# Altium footprint library QUTMS-MCISOLibrary.PcbLib: 51 footprints (part 3 of 4)
Each footprint in its own frame and in the unit in brackets; x right, y up, seen from the top. Pads: shape width x height; smd on the part's side, far side on the other; paste and mask are expansions set on the pad; w line width, h text height; cw(c..) or ccw(c..) is an arc to the next point about the centre after c.
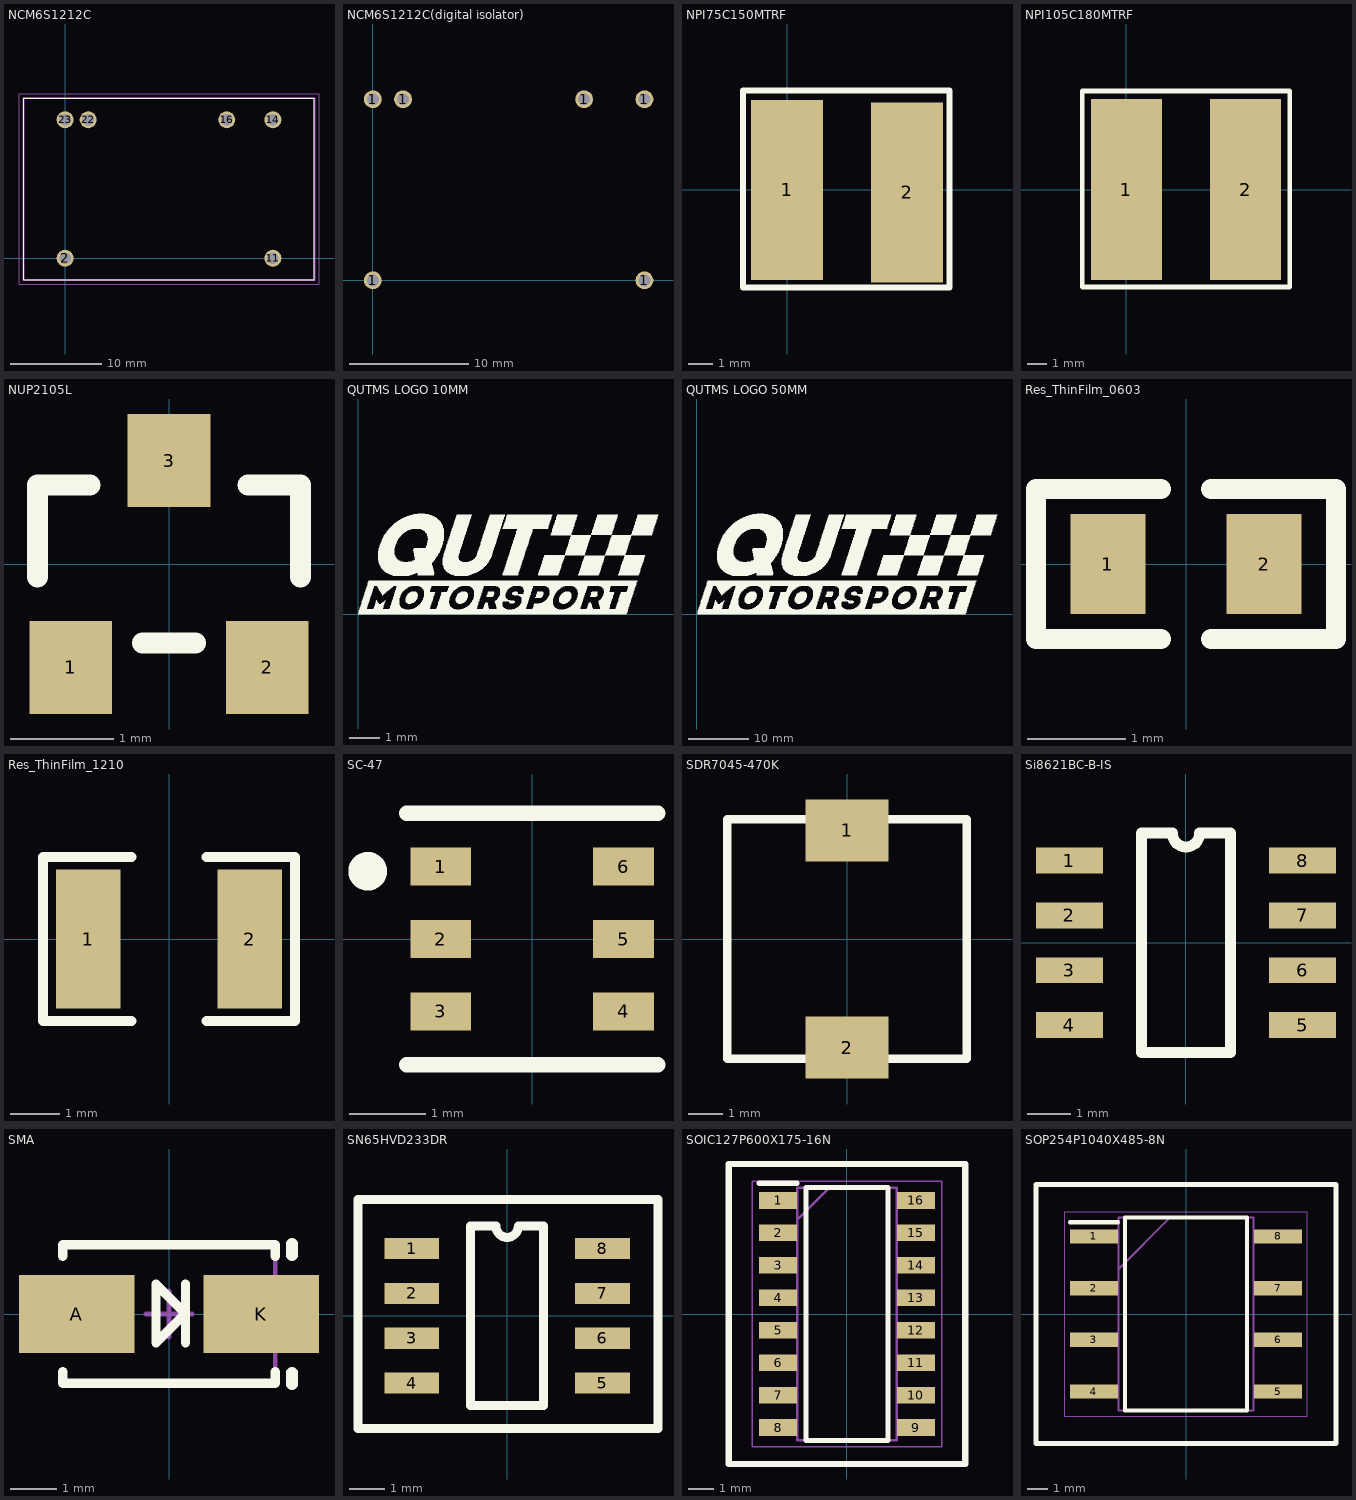
[diagram p2: the footprints below, top view; thin cyan lines are the x and y axes]

## NCM6S1212C [mm]
pads (6):
  round 1.875 hole 1.25: 2(0,0) 11(22.86,0) 14(22.86,15.24) 16(17.78,15.24) 22(2.54,15.24) 23(0,15.24)
Top Overlay:
  lines w0.1: -4.57,-2.38 -4.57,17.62 27.43,17.62 27.43,-2.38 -4.57,-2.38
Mechanical 13:
  lines w0.2: -4.57,-2.38 -4.57,17.62 27.43,17.62 27.43,-2.38 -4.57,-2.38
Mechanical 15:
  lines w0.1: -5.07,-2.88 -5.07,18.12 27.93,18.12 27.93,-2.88 -5.07,-2.88
3D body "NCM6S1212C.stp": height 10.85, standoff -5, extent -4.57,-2.38 27.43,17.62

## NCM6S1212C(digital isolator) [mm]
pads (6):
  round 1.5 hole 1: 1(0,0) 1(0,15.24) 1(2.54,15.24) 1(17.78,15.24) 1(22.86,0) 1(22.86,15.24)
Multi-Layer:
  lines w0.254: -1.25,-1.275 24,-1.275 24,16.65 -1.25,16.65 -1.25,-1.275

## NPI75C150MTRF [mm]
pads (2):
  rect 3x7.5 smd: 1(0,0) 2(5,-0.1)
Top Overlay:
  lines w0.254: -1.825,-4.075 6.775,-4.075 6.775,4.15 -1.6,4.15 -1.825,4.15 -1.825,-4.075

## NPI105C180MTRF [mm]
pads (2):
  rect 3.75x9.5 smd: 1(0,0) 2(6.25,0)
Top Overlay:
  lines w0.254: -2.325,-5.1 -2.325,5.175 8.575,5.175 8.575,-5.1 -2.325,-5.1

## NUP2105L [mm]
pads (3):
  rect 0.8x0.9 smd: 1(-0.95,-1) 2(0.95,-1) 3(0,1)
Top Overlay:
  lines w0.203: -1.27,-0.127 -1.27,0.762 -0.762,0.762 ; -0.254,-0.762 0.254,-0.762 ; 0.762,0.762 1.27,0.762 1.27,-0.127
3D body "SOT-23-3.stp": height 1, standoff 0, extent -1.448,-1.224 1.452,1.176

## QUTMS LOGO 10MM [mm]
Top Overlay:
  drawing of 14 lines, arcs and shapes, not listed

## QUTMS LOGO 50MM [mm]
Top Overlay:
  drawing of 14 lines, arcs and shapes, not listed

## Res_ThinFilm_0603 [mil]
pads (2):
  rect 30x40 smd: 1(-31.24,0) 2(31.24,0)
Top Overlay:
  lines w8: -10,-30 -60,-30 -60,30 -10,30 ; 10,-30 60,-30 60,30 10,30
3D body "rsmd-0603_l1-6_w0-8_h0-45.stp": height 17.72, standoff 0, extent -31.49,-15.74 31.5,15.75

## Res_ThinFilm_1210 [mm]
pads (2):
  rect 1.3x2.8 smd: 1(-1.625,0) 2(1.625,0)
Top Overlay:
  lines w0.203: -0.762,-1.651 -2.54,-1.651 -2.54,1.651 -0.762,1.651 ; 0.762,-1.651 2.54,-1.651 2.54,1.651 0.762,1.651
3D body "rsmd-1210_l3-2_w2-5_h0-6.stp": height 0.6, standoff 0, extent -1.6,-1.25 1.6,1.25

## SC-47 [mm]
pads (6):
  rect 0.8x0.5 smd: 1(-1.2,0.95) 2(-1.2,0) 3(-1.2,-0.95) 4(1.2,-0.95) 5(1.2,0) 6(1.2,0.95)
Top Overlay:
  circle w0.254: c-2.159,0.889 r0.127
  lines w0.2: -1.651,-1.651 1.651,-1.651 ; -1.651,1.651 1.651,1.651
3D body "SC-74-6.stp": height 1.14, standoff 0.04, extent -1.3,-1.45 1.3,1.45

## SDR7045-470K [mm]
pads (2):
  rect 2.4x1.8 smd: 1(0,3.15) 2(0,-3.15)
Top Overlay:
  lines w0.254: -3.473,-3.473 3.473,-3.473 3.473,3.473 -3.473,3.473 -3.473,-3.473
3D body "SDR7045-470K.stp": height 3.5, standoff -3.5, extent -2,-3.475 2.5,3.525

## Si8621BC-B-IS [mm]
pads (8):
  rect 1.55x0.6 smd: 1(-2.7,1.905) 2(-2.7,0.635) 3(-2.7,-0.635) 4(-2.7,-1.905) 5(2.7,-1.905) 6(2.7,-0.635) 7(2.7,0.635) 8(2.7,1.905)
Top Overlay:
  lines w0.254: -1.036,-2.54 1.036,-2.54 1.036,2.54 0.318,2.54 cw(c0,2.54) -0.317,2.54 -1.036,2.54 -1.036,-2.54
3D body "D0008A.stp": height 1.63, standoff 0, extent -3.011,-2.449 3.012,2.453

## SMA [mm]
pads (2):
  rect 2.5x1.7 smd: A(-2,0) K(2,0)
Top Overlay:
  lines w0.2: -2.3,-1.25 -2.3,-1.5 2.3,-1.5 2.3,-1.25 ; -2.3,1.25 -2.3,1.5 2.3,1.5 2.3,1.25 ; 0.355,-0.623 0.355,0.647 ; -0.28,-0.623 -0.28,0.647 0.355,0.012 -0.28,-0.623
  lines w0.254: 2.667,-1.524 2.667,-1.27 ; 2.667,1.27 2.667,1.524
Mechanical 13:
  lines w0.1: -2.3,-1.46 2.3,-1.46 2.3,1.46 -2.3,1.46
Mechanical 15:
  lines w0.1: -0.5,0 0.5,0 ; 0,-0.5 0,0.5
3D body "DIOM4326X24L.step": height 2.4, standoff 0, extent -2.52,-1.46 2.52,1.46

## SN65HVD233DR [mm]
pads (8):
  rect 1.55x0.6 smd: 1(-2.7,1.903) 2(-2.7,0.633) 3(-2.7,-0.637) 4(-2.7,-1.907) 5(2.7,-1.907) 6(2.7,-0.637) 7(2.7,0.633) 8(2.7,1.903)
Top Overlay:
  lines w0.254: -4.225,-3.2 4.275,-3.2 4.275,3.3 -4.225,3.3 -4.225,-3.2 ; -1.036,-2.542 -1.036,2.538 -0.317,2.538 ccw(c0,2.538) 0.318,2.538 1.036,2.538 1.036,-2.542 -1.036,-2.542
3D body "D0008A.stp": height 1.63, standoff 0, extent -3.011,-2.451 3.012,2.451

## SOIC127P600X175-16N [mm]
pads (16):
  rect 1.5x0.65 smd: 1(-2.7,4.445) 2(-2.7,3.175) 3(-2.7,1.905) 4(-2.7,0.635) 5(-2.7,-0.635) 6(-2.7,-1.905) 7(-2.7,-3.175) 8(-2.7,-4.445) 9(2.7,-4.445) 10(2.7,-3.175) 11(2.7,-1.905) 12(2.7,-0.635) 13(2.7,0.635) 14(2.7,1.905) 15(2.7,3.175) 16(2.7,4.445)
Top Overlay:
  lines w0.2: -3.45,5.12 -1.95,5.12 ; -1.6,-4.95 -1.6,4.95 1.6,4.95 1.6,-4.95 -1.6,-4.95
  lines w0.254: -4.623,-5.873 4.623,-5.873 4.623,5.873 -4.623,5.873 -4.623,-5.873
Mechanical 13:
  lines w0.1: -1.95,3.68 -0.68,4.95 ; -1.95,-4.95 -1.95,4.95 1.95,4.95 1.95,-4.95 -1.95,-4.95
Mechanical 15:
  lines w0.05: -3.7,-5.2 -3.7,5.2 3.7,5.2 3.7,-5.2 -3.7,-5.2
3D body "Si8641BC-B-IS1.stp": height 1.75, standoff 0, extent -3,-4.95 3,4.95

## SOP254P1040X485-8N [mm]
pads (8):
  rect 2.35x0.7 smd: 1(-4.525,3.81) 2(-4.525,1.27) 3(-4.525,-1.27) 4(-4.525,-3.81) 5(4.525,-3.81) 6(4.525,-1.27) 7(4.525,1.27) 8(4.525,3.81)
Top Overlay:
  lines w0.2: -5.7,4.51 -3.35,4.51 ; -3,-4.75 3,-4.75 3,4.75 -3,4.75 -3,-4.75
  lines w0.254: -7.373,-6.373 7.373,-6.373 7.373,6.373 -7.373,6.373 -7.373,-6.373
Mechanical 13:
  lines w0.1: -3.31,2.21 -0.77,4.75 ; -3.31,-4.75 3.31,-4.75 3.31,4.75 -3.31,4.75 -3.31,-4.75
Mechanical 15:
  lines w0.05: -5.95,-5.025 5.95,-5.025 5.95,5.025 -5.95,5.025 -5.95,-5.025
3D body "ISO1050DUBR.stp": height 4.85, standoff 0, extent -5.2,-4.75 5.2,4.75